# Altium footprint library WiirdFlex.PcbLib: 79 footprints (part 3 of 5)
Each footprint in its own frame and in the unit in brackets; x right, y up, seen from the top. Pads: shape width x height; smd on the part's side, far side on the other; paste and mask are expansions set on the pad; w line width, h text height; cw(c..) or ccw(c..) is an arc to the next point about the centre after c.
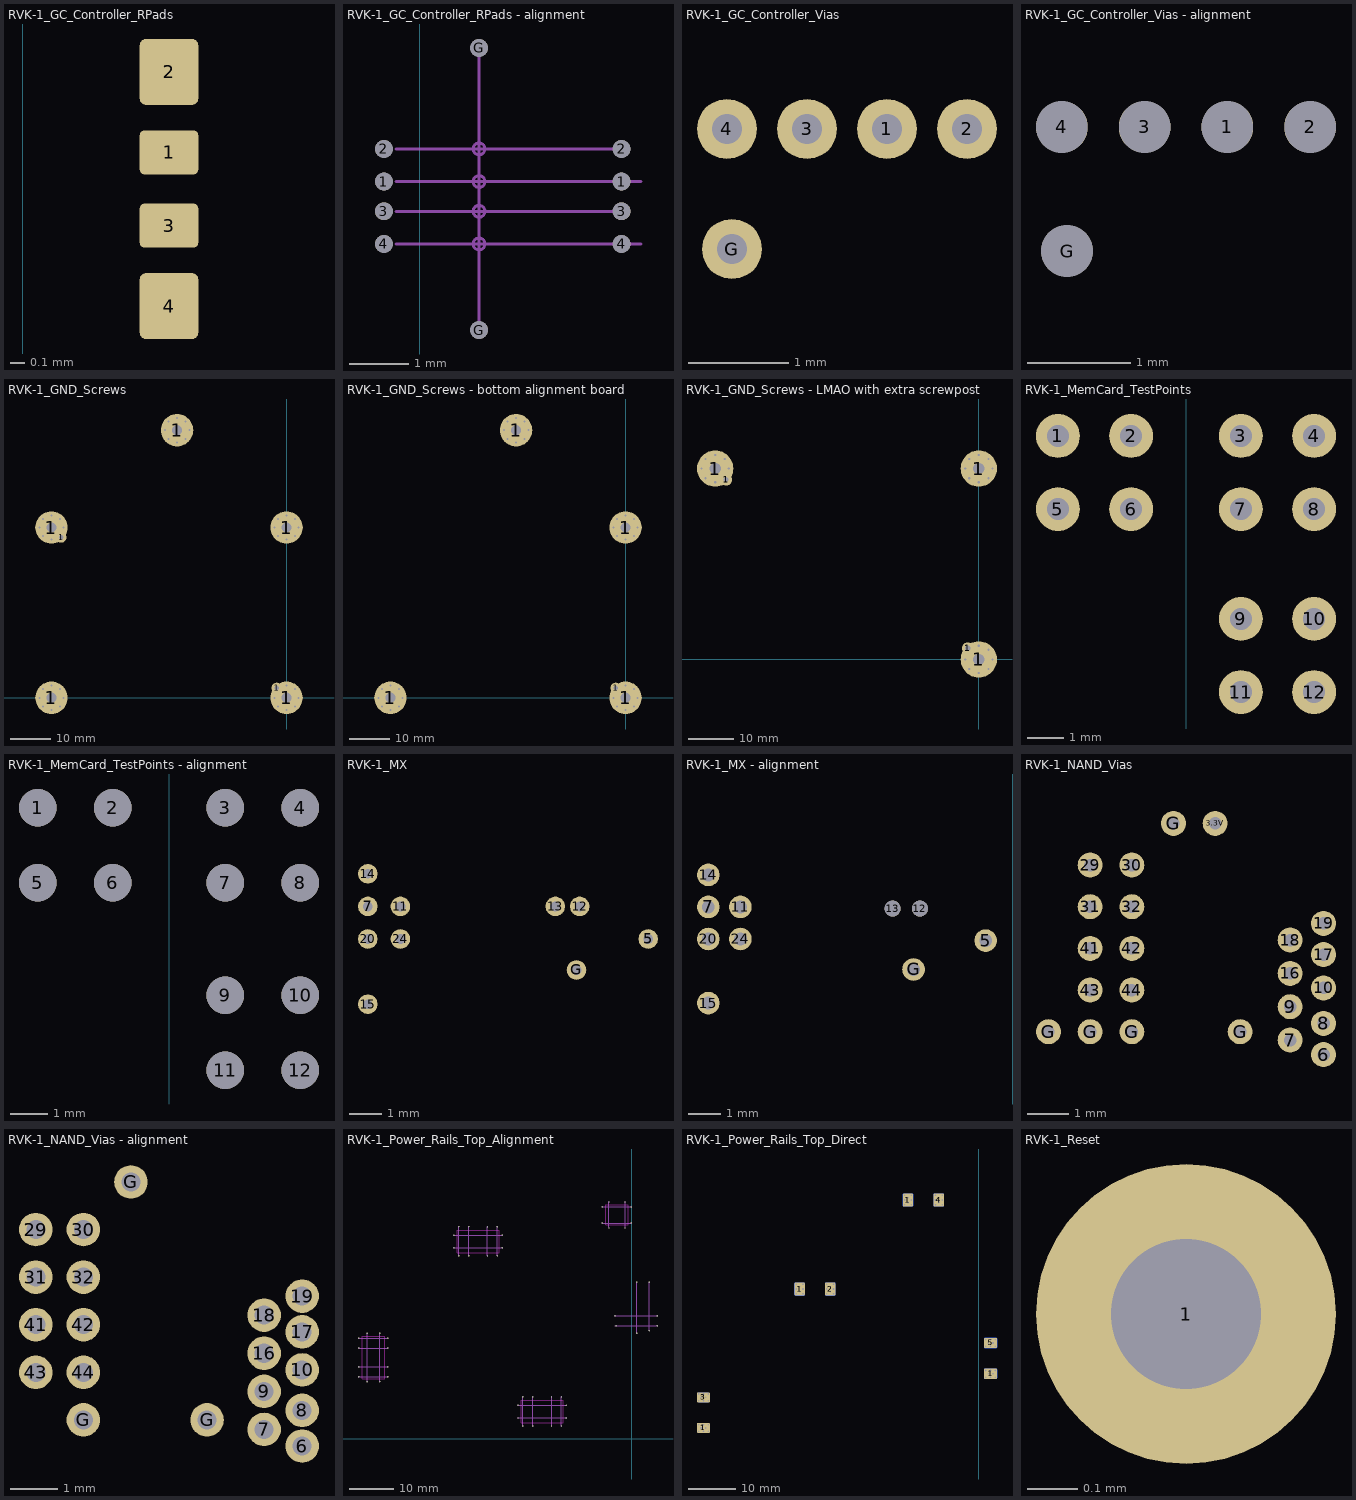
[diagram p2: the footprints below, top view; thin cyan lines are the x and y axes]

## RVK-1_GC_Controller_RPads [mm] "Footprint for direct attachment to Game Cube controller signals on bottom side, via pull up resistor array pads"
pads (4):
  rrect20% 0.4x0.3 smd: 1(1,18.25) 3(1,17.75)
  rrect20% 0.4x0.45 smd: 2(1,18.8) 4(1,17.2)

## RVK-1_GC_Controller_RPads - alignment [mm]
pads (10):
  round 0.3 hole 0.3 unplated: 1(-0.6,18.25) 1(3.4,18.25) 2(-0.6,18.8) 2(3.4,18.8) 3(-0.6,17.75) 3(3.4,17.75) 4(-0.6,17.2) 4(3.4,17.2) G(1,15.75) G(1,20.5)
Mechanical 1:
  circle w0.05: c1,18.8 r0.1
  circle w0.05: c1,17.2 r0.1
  circle w0.05: c1,17.75 r0.1
  circle w0.05: c1,18.25 r0.1
  lines w0.05: -0.4,17.2 3.725,17.2 ; -0.4,17.75 3.475,17.75 ; -0.4,18.25 3.725,18.25 ; -0.4,18.8 3.475,18.8 ; 1,15.75 1,20.5

## RVK-1_GC_Controller_Vias [mm]
pads (5):
  round 0.6 hole 0.3: 1(-1.95,19.15) 2(-1.15,19.15) 3(-2.75,19.15) 4(-3.55,19.15) G(-3.5,17.95)

## RVK-1_GC_Controller_Vias - alignment [mm]
pads (5):
  round 0.5 hole 0.5 unplated: 1(-1.95,19.15) 2(-1.15,19.15) 3(-2.75,19.15) 4(-3.55,19.15) G(-3.5,17.95)

## RVK-1_GND_Screws [mm]
pads (45):
  round 1 hole 0.5: 1(-61,0) 1(-61,42) 1(-60.121,-2.121) 1(-60.121,2.121) 1(-60.121,39.879) 1(-60.121,44.121) 1(-58,-3) 1(-58,3) 1(-58,39) 1(-58,45) 1(-55.879,-2.121) 1(-55.879,2.121) 1(-55.879,44.121) 1(-55,0) 1(-55,42) 1(-30,66) 1(-29.121,63.879) 1(-29.121,68.121) 1(-27,63) 1(-27,69) 1(-24.879,63.879) 1(-24.879,68.121) 1(-24,66) 1(-3,0) 1(-3,42) 1(-2.121,-2.121) 1(-2.121,39.879) 1(-2.121,44.121) 1(0,-3) 1(0,3) 1(0,39) 1(0,45) 1(2.121,-2.121) 1(2.121,2.121) 1(2.121,39.879) 1(2.121,44.121) 1(3,0) 1(3,42)
  round 8 hole 2.5: 1(-58,0) 1(-58,42) 1(-27,66) 1(0,0) 1(0,42)
  round 2.6 hole 1.1: 1(-55.568,39.568)
  round 2.6 hole 1.2: 1(-2.432,2.432)

## RVK-1_GND_Screws - bottom alignment board [mm]
pads (36):
  round 1 hole 0.5: 1(-61,0) 1(-60.121,-2.121) 1(-60.121,2.121) 1(-58,-3) 1(-58,3) 1(-55.879,-2.121) 1(-55.879,2.121) 1(-55,0) 1(-30,66) 1(-29.121,63.879) 1(-29.121,68.121) 1(-27,63) 1(-27,69) 1(-24.879,63.879) 1(-24.879,68.121) 1(-24,66) 1(-3,0) 1(-3,42) 1(-2.121,-2.121) 1(-2.121,39.879) 1(-2.121,44.121) 1(0,-3) 1(0,3) 1(0,39) 1(0,45) 1(2.121,-2.121) 1(2.121,2.121) 1(2.121,39.879) 1(2.121,44.121) 1(3,0) 1(3,42)
  round 8 hole 2.5: 1(-58,0) 1(-27,66) 1(0,0) 1(0,42)
  round 2.6 hole 1.2: 1(-2.432,2.432)

## RVK-1_GND_Screws - LMAO with extra screwpost [mm]
pads (27):
  round 1 hole 0.5: 1(-61,42) 1(-60.121,39.879) 1(-60.121,44.121) 1(-58,39) 1(-58,45) 1(-55.879,44.121) 1(-55,42) 1(-3,0) 1(-3,42) 1(-2.121,-2.121) 1(-2.121,39.879) 1(-2.121,44.121) 1(0,-3) 1(0,3) 1(0,39) 1(0,45) 1(2.121,-2.121) 1(2.121,2.121) 1(2.121,39.879) 1(2.121,44.121) 1(3,0) 1(3,42)
  round 8 hole 2.5: 1(-58,42) 1(0,0) 1(0,42)
  round 2.6 hole 1.1: 1(-55.568,39.568)
  round 2.6 hole 1.2: 1(-2.432,2.432)

## RVK-1_MemCard_TestPoints [mm] "Don't need these signals but they may be useful for mechanical attachment points"
pads (12):
  round 1.2 hole 0.6: 1(-3.5,14) 2(-1.5,14) 3(1.5,14) 4(3.5,14) 5(-3.5,12) 6(-1.5,12) 7(1.5,12) 8(3.5,12) 9(1.5,9) 10(3.5,9) 11(1.5,7) 12(3.5,7)

## RVK-1_MemCard_TestPoints - alignment [mm] "Don't need these signals but they may be useful for mechanical attachment points"
pads (12):
  round 1 hole 1 unplated: 1(-3.5,14) 2(-1.5,14) 3(1.5,14) 4(3.5,14) 5(-3.5,12) 6(-1.5,12) 7(1.5,12) 8(3.5,12) 9(1.5,9) 10(3.5,9) 11(1.5,7) 12(3.5,7)

## RVK-1_MX [mm] "Vias where the MX chip attaches to CPU and/or GPU on the bottom of a 4-layer Wii motherboard"
pads (10):
  round 0.6 hole 0.3: 5(-0.9,24.95) 7(-9.5,25.95) 11(-8.5,25.95) 12(-3,25.95) 13(-3.75,25.95) 14(-9.5,26.95) 15(-9.5,22.95) 20(-9.5,24.95) 24(-8.5,24.95) G(-3.1,24)

## RVK-1_MX - alignment [mm] "Vias where the MX chip attaches to CPU and/or GPU on the bottom of a 4-layer Wii motherboard"
pads (10):
  round 0.705 hole 0.4: 5(-0.85,24.9) 7(-9.5,25.95) 11(-8.5,25.95) 14(-9.5,26.95) 15(-9.5,22.95) 20(-9.5,24.95) 24(-8.5,24.95) G(-3.1,24)
  round 0.5 hole 0.5 unplated: 12(-2.9,25.9) 13(-3.75,25.9)

## RVK-1_NAND_Vias [mm]
pads (23):
  round 0.6 hole 0.3: 3.3V(-5.5,35.9) 6(-2.9,30.35) 7(-3.7,30.7) 8(-2.9,31.1) 9(-3.7,31.5) 10(-2.9,31.95) 16(-3.7,32.3) 17(-2.9,32.75) 18(-3.7,33.1) 19(-2.9,33.5) 29(-8.5,34.9) 30(-7.5,34.9) 31(-8.5,33.9) 32(-7.5,33.9) 41(-8.5,32.9) 42(-7.5,32.9) 43(-8.5,31.9) 44(-7.5,31.9) G(-9.5,30.9) G(-8.5,30.9) G(-7.5,30.9) G(-6.5,35.9) G(-4.9,30.9)

## RVK-1_NAND_Vias - alignment [mm]
pads (20):
  round 0.705 hole 0.4: 6(-2.9,30.35) 7(-3.7,30.7) 8(-2.9,31.1) 9(-3.7,31.5) 10(-2.9,31.95) 16(-3.7,32.3) 17(-2.9,32.75) 18(-3.7,33.1) 19(-2.9,33.5) 29(-8.5,34.9) 30(-7.5,34.9) 31(-8.5,33.9) 32(-7.5,33.9) 41(-8.5,32.9) 42(-7.5,32.9) 43(-8.5,31.9) 44(-7.5,31.9) G(-7.5,30.9) G(-6.5,35.9) G(-4.9,30.9)

## RVK-1_Power_Rails_Top_Alignment [mm] "alignment test footprint for top side power rail connection points"
pads (52):
  round 0.3 hole 0.3 unplated: 1(-60.95,13.8) 1(-60.95,16) 1(-59.05,12.7) 1(-59.05,23.5) 1(-56.25,12.7) 1(-56.25,23.5) 1(-54.45,13.8) 1(-54.45,16) 1(-39.7,42.6) 1(-39.7,45.4) 1(-38.6,40.8) 1(-38.6,47.3) 1(-36.4,40.8) 1(-36.4,47.3) 1(-28.9,42.6) 1(-28.9,45.4) 1(-25.4,4.6) 1(-25.4,7.4) 1(-24.3,2.8) 1(-24.3,9.3) 1(-22.1,2.8) 1(-22.1,9.3) 1(-14.6,4.6) 1(-14.6,7.4) 1(-3.75,27.4) 1(-3.5,25.2) 1(1.1,34.9) 1(3.9,24.1) 1(3.9,34.9) 1(5.7,25.2) 1(5.7,27.4) 2(-32.2,40.8) 2(-32.2,47.3) 2(-30,40.8) 2(-30,47.3) 3(-60.95,20.2) 3(-60.95,22.4) 3(-54.45,20.2) 3(-54.45,22.4) 4(-17.9,2.8) 4(-17.9,9.3) 4(-15.7,2.8) 4(-15.7,9.3) 4(-6.6,48.1) 4(-6.6,51.7) 4(-5.1,47) 4(-5.1,52.8) 4(-1.5,47) 4(-1.5,52.8) 4(-0.1,48.1) 4(-0.1,51.7) 5(1.1,23.5)
Keep-Out Layer:
  lines w0.254: -60.15,13.4 -60.15,22.8 -55.15,22.8 -55.15,13.4 -60.15,13.4 ; -39,41.5 -39,46.5 -29.6,46.5 -29.6,41.5 -39,41.5 ; -24.7,3.5 -24.7,8.5 -15.3,8.5 -15.3,3.5 -24.7,3.5 ; -5.8,47.7 -5.8,52.15 -0.8,52.15 -0.8,47.7 -5.8,47.7
Mechanical 1:
  lines w0.05: -60.95,13.8 -54.45,13.8 ; -60.95,16 -54.45,16 ; -60.95,20.2 -54.45,20.2 ; -60.95,22.4 -54.45,22.4 ; -59.05,12.7 -59.05,23.5 ; -56.25,12.7 -56.25,23.5 ; -39.7,42.6 -28.9,42.6 ; -39.7,45.4 -28.9,45.4 ; -38.6,40.8 -38.6,47.3 ; -36.4,40.8 -36.4,47.3 ; -32.2,40.8 -32.2,47.3 ; -30,40.8 -30,47.3 ; -25.4,4.6 -14.6,4.6 ; -25.4,7.4 -14.6,7.4 ; -24.3,2.8 -24.3,9.3 ; -22.1,2.8 -22.1,9.3 ; -17.9,2.8 -17.9,9.3 ; -15.7,2.8 -15.7,9.3 ; -6.6,48.1 -0.1,48.1 ; -6.6,51.7 -0.1,51.7 ; -5.1,47.15 -5.1,52.8 ; -3.8,25.2 5.7,25.2 ; -3.8,27.4 5.7,27.4 ; -1.5,47.15 -1.5,52.8 ; 1.1,23.5 1.1,34.9 ; 3.9,24.1 3.9,34.9

## RVK-1_Power_Rails_Top_Direct [mm] "Direct solder-to-board attachment options for Wii power rails.  Includes pads to attach to the Wii in place of existing bulk capacitors (those capacitors would then be relocated to the interface board"
pads (16):
  rrect50% 2.6x2 smd far side: 1(-57.65,14.9) 3(-57.65,21.3)
  rrect20% 2.7x2.15 smd: 1(-57.65,14.9) 1(2.5,26.25) 3(-57.65,21.3) 5(2.5,32.7)
  rrect20% 2.15x2.7 smd far side: 1(-37.5,44) 1(-14.8,62.65) 2(-31.1,44) 4(-8.35,62.65)
  rrect20% 2.15x2.7 smd: 1(-37.5,44) 1(-14.8,62.65) 2(-31.1,44) 4(-8.35,62.65)
  rrect20% 2.7x2.15 smd far side: 1(2.5,26.25) 5(2.5,32.7)
via 1.5,26.95 diameter 0.7 hole 0.35
via 2,26.25 diameter 0.7 hole 0.35
via 1.5,25.55 diameter 0.7 hole 0.35
via 2.5,25.55 diameter 0.7 hole 0.35
via 2.5,26.95 diameter 0.7 hole 0.35
via 3,26.25 diameter 0.7 hole 0.35
via 3.5,25.55 diameter 0.7 hole 0.35
via 3.5,26.95 diameter 0.7 hole 0.35
via 1.5,33.4 diameter 0.7 hole 0.35
via 2,32.7 diameter 0.7 hole 0.35
via 1.5,32 diameter 0.7 hole 0.35
via 2.5,32 diameter 0.7 hole 0.35
via 2.5,33.4 diameter 0.7 hole 0.35
via 3,32.7 diameter 0.7 hole 0.35
via 3.5,32 diameter 0.7 hole 0.35
via 3.5,33.4 diameter 0.7 hole 0.35
via -58.65,22 diameter 0.7 hole 0.35
via -58.15,21.3 diameter 0.7 hole 0.35
via -58.65,20.6 diameter 0.7 hole 0.35
via -57.65,20.6 diameter 0.7 hole 0.35
via -57.65,22 diameter 0.7 hole 0.35
via -57.15,21.3 diameter 0.7 hole 0.35
via -56.65,20.6 diameter 0.7 hole 0.35
via -56.65,22 diameter 0.7 hole 0.35
via -58.65,15.6 diameter 0.7 hole 0.35
via -58.15,14.9 diameter 0.7 hole 0.35
via -58.65,14.2 diameter 0.7 hole 0.35
via -57.65,14.2 diameter 0.7 hole 0.35
via -57.65,15.6 diameter 0.7 hole 0.35
via -57.15,14.9 diameter 0.7 hole 0.35
via -56.65,14.2 diameter 0.7 hole 0.35
via -56.65,15.6 diameter 0.7 hole 0.35
via -36.8,45 diameter 0.7 hole 0.35
via -37.5,44.5 diameter 0.7 hole 0.35
via -38.2,45 diameter 0.7 hole 0.35
via -38.2,44 diameter 0.7 hole 0.35
via -36.8,44 diameter 0.7 hole 0.35
via -37.5,43.5 diameter 0.7 hole 0.35
via -38.2,43 diameter 0.7 hole 0.35
via -36.8,43 diameter 0.7 hole 0.35
via -30.4,45 diameter 0.7 hole 0.35
via -31.1,44.5 diameter 0.7 hole 0.35
via -31.8,45 diameter 0.7 hole 0.35
via -31.8,44 diameter 0.7 hole 0.35
via -30.4,44 diameter 0.7 hole 0.35
via -31.1,43.5 diameter 0.7 hole 0.35
via -31.8,43 diameter 0.7 hole 0.35
via -30.4,43 diameter 0.7 hole 0.35
via -14.1,63.65 diameter 0.7 hole 0.35
via -14.8,63.15 diameter 0.7 hole 0.35
via -15.5,63.65 diameter 0.7 hole 0.35
via -15.5,62.65 diameter 0.7 hole 0.35
via -14.1,62.65 diameter 0.7 hole 0.35
via -14.8,62.15 diameter 0.7 hole 0.35
via -15.5,61.65 diameter 0.7 hole 0.35
via -14.1,61.65 diameter 0.7 hole 0.35
via -7.65,63.65 diameter 0.7 hole 0.35
via -8.35,63.15 diameter 0.7 hole 0.35
via -9.05,63.65 diameter 0.7 hole 0.35
via -9.05,62.65 diameter 0.7 hole 0.35
via -7.65,62.65 diameter 0.7 hole 0.35
via -8.35,62.15 diameter 0.7 hole 0.35
via -9.05,61.65 diameter 0.7 hole 0.35
via -7.65,61.65 diameter 0.7 hole 0.35

## RVK-1_Reset [mm]
pads (1):
  round 0.6 hole 0.3: 1(-7.5,25)